# Altium footprint library Optoacopladores.PcbLib: 9 footprints
Each footprint in its own frame and in the unit in brackets; x right, y up, seen from the top. Pads: shape width x height; smd on the part's side, far side on the other; paste and mask are expansions set on the pad; w line width, h text height; cw(c..) or ccw(c..) is an arc to the next point about the centre after c.
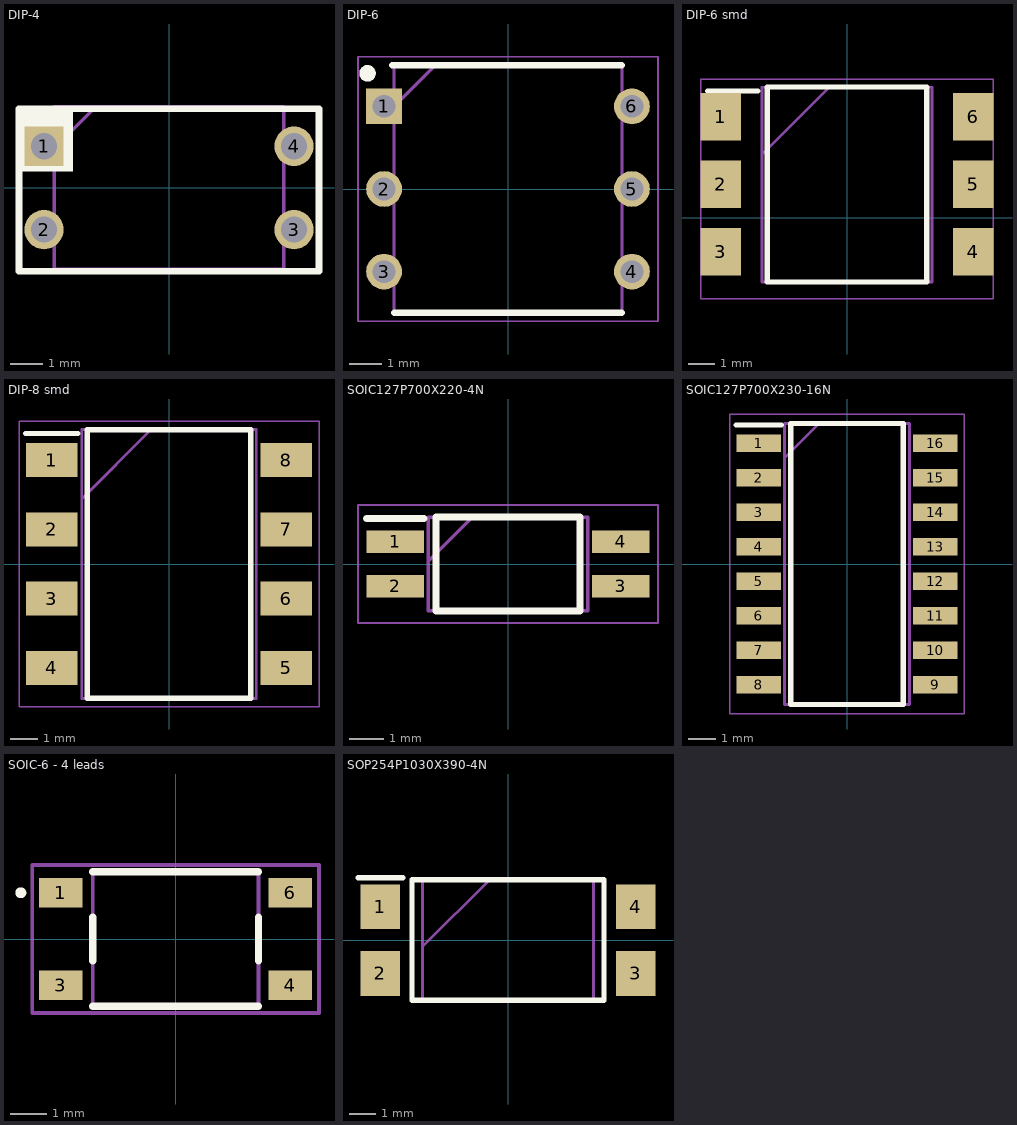
[diagram p0: the footprints below, top view; thin cyan lines are the x and y axes]

## DIP-4 [mm]
pads (4):
  rect 1.2x1.2 hole 0.8: 1(-3.81,1.27)
  round 1.2 hole 0.8: 2(-3.81,-1.27) 3(3.81,-1.27) 4(3.81,1.27)
Top Overlay:
  rectangle: -4.572,0.508 -2.921,2.413
  lines w0.2: -4.572,-2.54 4.572,-2.54 4.572,2.413 -4.572,2.413 -4.572,-2.54
Mechanical 13:
  lines w0.1: -3.5,1.205 -2.23,2.475 ; -3.5,-2.475 3.5,-2.475 3.5,2.475 -3.5,2.475 -3.5,-2.475
3D body "optoacoplador PS2501.STEP": height 4.5, standoff -2.71, extent -3.943,-2.55 3.937,2.55

## DIP-6 [mm]
pads (6):
  rect 1.1x1.1 hole 0.7: 1(-3.81,2.54)
  round 1.1 hole 0.7: 2(-3.81,0) 3(-3.81,-2.54) 4(3.81,-2.54) 5(3.81,0) 6(3.81,2.54)
Top Overlay:
  circle w0.254: c-4.318,3.556 r0.127
  lines w0.2: -3.556,3.81 3.5,3.81 ; -3.5,-3.81 3.5,-3.81
Mechanical 13:
  lines w0.1: -3.5,2.54 -2.23,3.81 ; -3.5,-3.81 -3.5,3.81 3.5,3.81 3.5,-3.81 -3.5,-3.81
Mechanical 15:
  lines w0.05: -4.61,-4.06 -4.61,4.06 4.61,4.06 4.61,-4.06 -4.61,-4.06
3D body "DIP-6.STEP": height 4.31, standoff -3.28, extent -4,-4.064 4,4.016

## DIP-6 smd [mm]
pads (6):
  rect 1.52x1.78 smd: 1(-4.76,3.81) 2(-4.76,1.27) 3(-4.76,-1.27) 4(4.76,-1.27) 5(4.76,1.27) 6(4.76,3.81)
Top Overlay:
  lines w0.2: -5.25,4.785 -3.35,4.785 ; -3,-2.413 -3,4.93 3,4.93 3,-2.413 -3,-2.413
Mechanical 13:
  lines w0.1: -3.2,2.39 -0.66,4.93 ; -3.2,-2.413 -3.2,4.93 3.2,4.93 3.2,-2.413 -3.2,-2.413
Mechanical 15:
  lines w0.05: -5.5,-3.048 -5.5,5.23 5.5,5.23 5.5,-3.048 -5.5,-3.048
3D body "DIP-6 smd.STEP": height 3.71, standoff 0, extent -4.9,-2.348 4.9,4.902

## DIP-8 smd [mm]
pads (8):
  rect 1.9x1.25 smd: 1(-4.3,3.81) 2(-4.3,1.27) 3(-4.3,-1.27) 4(-4.3,-3.81) 5(4.3,-3.81) 6(4.3,-1.27) 7(4.3,1.27) 8(4.3,3.81)
Top Overlay:
  lines w0.2: -5.25,4.785 -3.35,4.785 ; -3,-4.93 -3,4.93 3,4.93 3,-4.93 -3,-4.93
Mechanical 13:
  lines w0.1: -3.2,2.39 -0.66,4.93 ; -3.2,-4.93 -3.2,4.93 3.2,4.93 3.2,-4.93 -3.2,-4.93
Mechanical 15:
  lines w0.05: -5.5,-5.23 -5.5,5.23 5.5,5.23 5.5,-5.23 -5.5,-5.23
3D body "DIP-8 smd.STEP": height 4.26, standoff 0, extent -5.15,-4.953 5.15,4.953

## SOIC127P700X220-4N [mm]
pads (4):
  rect 1.65x0.65 smd: 1(-3.25,0.635) 2(-3.25,-0.635) 3(3.25,-0.635) 4(3.25,0.635)
Top Overlay:
  lines w0.2: -4.075,1.31 -2.425,1.31 ; -2.075,-1.35 2.075,-1.35 2.075,1.35 -2.075,1.35 -2.075,-1.35
Mechanical 13:
  lines w0.1: -2.3,0.08 -1.03,1.35 ; -2.3,-1.35 2.3,-1.35 2.3,1.35 -2.3,1.35 -2.3,-1.35
Mechanical 15:
  lines w0.05: -4.325,-1.7 4.325,-1.7 4.325,1.7 -4.325,1.7 -4.325,-1.7
3D body "TLP290_SE_T.stp": height 2.2, standoff 0, extent -3.5,-1.35 3.5,1.35

## SOIC127P700X230-16N [mm]
pads (16):
  rect 1.65x0.65 smd: 1(-3.25,4.445) 2(-3.25,3.175) 3(-3.25,1.905) 4(-3.25,0.635) 5(-3.25,-0.635) 6(-3.25,-1.905) 7(-3.25,-3.175) 8(-3.25,-4.445) 9(3.25,-4.445) 10(3.25,-3.175) 11(3.25,-1.905) 12(3.25,-0.635) 13(3.25,0.635) 14(3.25,1.905) 15(3.25,3.175) 16(3.25,4.445)
Top Overlay:
  lines w0.2: -4.075,5.12 -2.425,5.12 ; -2.075,-5.175 -2.075,5.175 2.075,5.175 2.075,-5.175 -2.075,-5.175
Mechanical 13:
  lines w0.1: -2.3,3.905 -1.03,5.175 ; -2.3,-5.175 -2.3,5.175 2.3,5.175 2.3,-5.175 -2.3,-5.175
Mechanical 15:
  lines w0.05: -4.325,-5.525 -4.325,5.525 4.325,5.525 4.325,-5.525 -4.325,-5.525
3D body "TLP290-4_GB-TP,E_T.stp": height 2.3, standoff 0, extent -3.5,-5.175 3.5,5.175

## SOIC-6 - 4 leads [mm]
pads (4):
  rect 1.2x0.8 smd: 1(-3.15,1.27) 3(-3.15,-1.27) 4(3.15,-1.27) 6(3.15,1.27)
Top Overlay:
  lines w0.2: -2.275,-1.85 2.275,-1.85 ; -2.275,-0.6 -2.275,0.6 ; -2.275,1.85 2.275,1.85 ; 2.275,-0.6 2.275,0.6 ; -4.3,1.27 ccw(c-4.25,1.27) -4.2,1.27 ; -4.3,1.27 cw(c-4.25,1.27) -4.2,1.27 ; -4.3,1.27 -4.2,1.27
Mechanical 13:
  lines w0.1: -2.275,-1.85 2.275,-1.85 2.275,1.85 -2.275,1.85 -2.275,-1.85
Mechanical 15:
  lines w0.1: -3.937,-2.032 3.937,-2.032 3.937,2.032 -3.937,2.032 -3.937,-2.032
3D body "SOIC-6 - 4 leads.STEP": height 2.3, standoff 0, extent -3.171,-1.85 3.171,1.85

## SOIC-8 [mm]

## SOP254P1030X390-4N [mm]
pads (4):
  rect 1.5x1.7 smd: 1(-4.85,1.27) 2(-4.85,-1.27) 3(4.85,-1.27) 4(4.85,1.27)
Top Overlay:
  lines w0.2: -5.7,2.37 -4,2.37 ; -3.65,-2.29 3.65,-2.29 3.65,2.29 -3.65,2.29 -3.65,-2.29
Mechanical 13:
  lines w0.1: -3.25,-0.25 -0.71,2.29 ; -3.25,-2.29 3.25,-2.29 3.25,2.29 -3.25,2.29 -3.25,-2.29
3D body "EL817S1_C__TU_-F.stp": height 3.9, standoff 0, extent -5.15,-2.29 5.15,2.29